# Altium schematic symbol library Arduino UNO.SchLib: 37 symbols
Pins are listed as number, name and electrical type; pins without a type are passive.

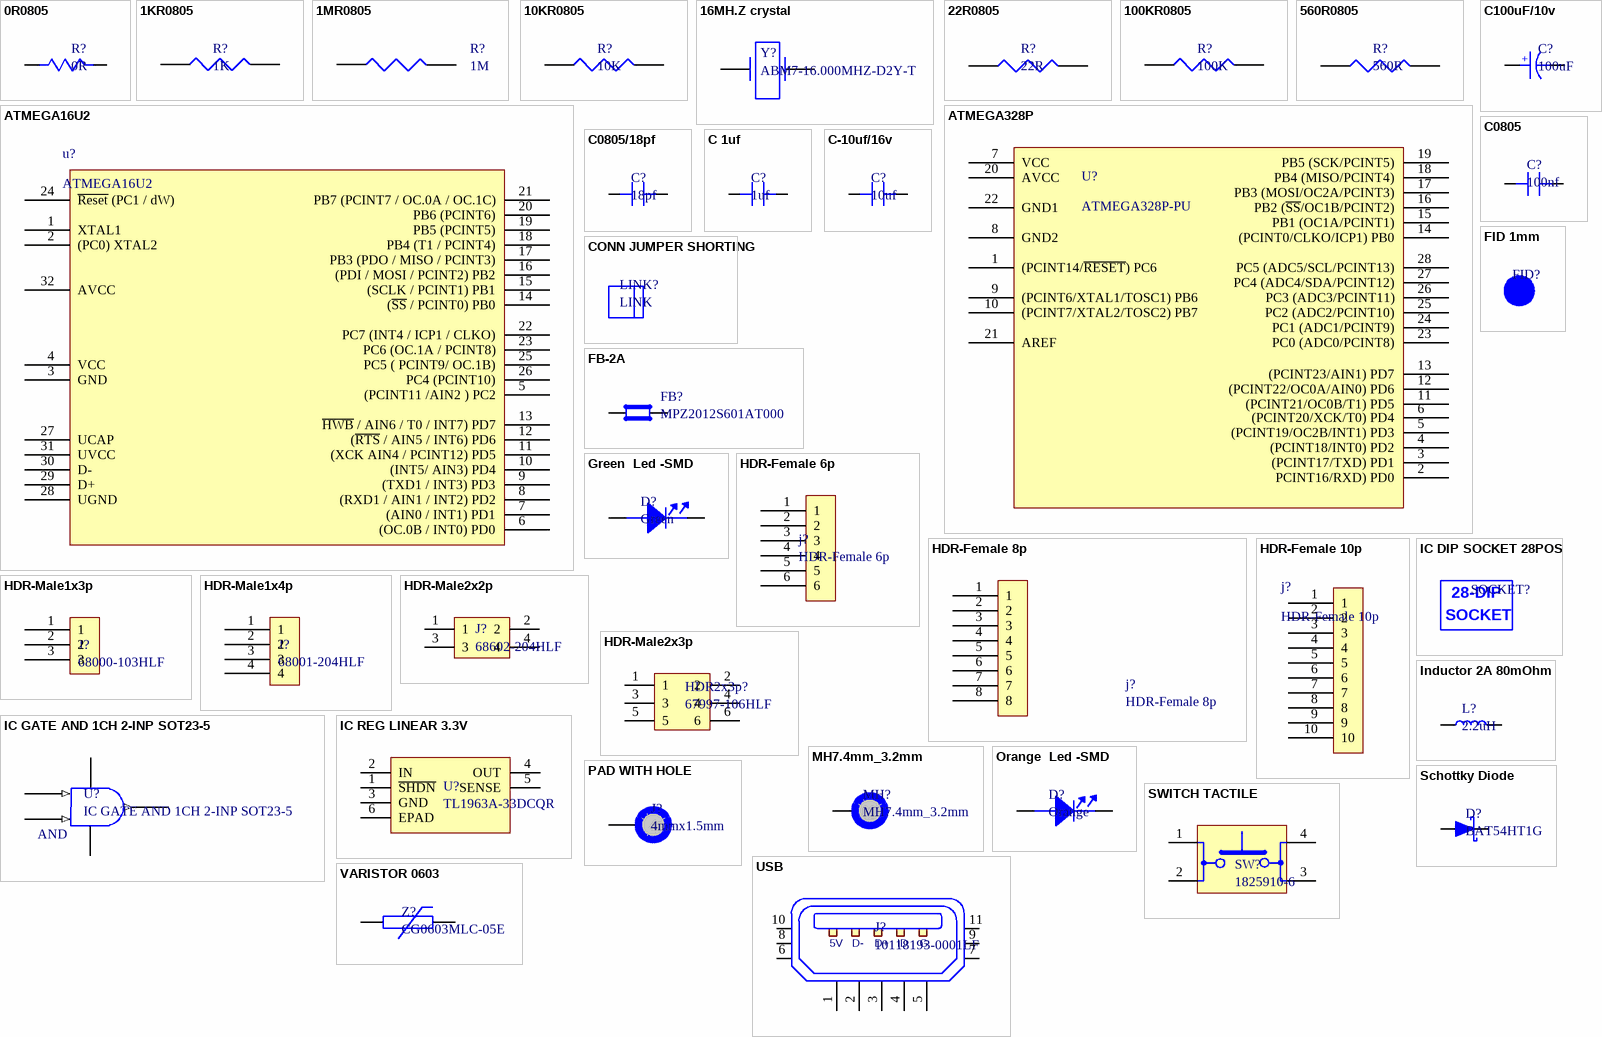
[diagram p0: symbols 0R0805 to VARISTOR 0603]

## 0R0805
designator R?, comment 0R
Supplier 1: Digi-Key; Supplier Part Number 1: 311-0.0ARCT-ND
footprint R0805
pins: 1, 2

## 1KR0805
designator R?, comment 1K
Supplier 1: Digi-Key; Supplier Part Number 1: 311-1.00KCRCT-ND
footprint R0805
pins: 1, 2

## 1MR0805
designator R?, comment 1M
Supplier 1: Digi-Key; Supplier Part Number 1: 311-1.00MCRCT-ND
footprint R0805
pins: 1, 2

## 10KR0805
designator R?, comment 10K
Supplier 1: Digi-Key; Supplier Part Number 1: 311-10.0KCRCT-ND
footprint R0805
pins: 1, 2

## 16MH.Z crystal
designator Y?, comment ABM7-16.000MHZ-D2Y-T
Supplier 1: Digi-Key; Supplier Part Number 1: 535-9840-1-ND
footprint ABM7-16.000MHZ
pins: 1, 2

## 22R0805
designator R?, comment 22R
Supplier 1: Digi-Key; Supplier Part Number 1: YAG3713DKR-ND
footprint R0805
pins: 1, 2

## 100KR0805
designator R?, comment 100K
Supplier 1: Digi-Key; Supplier Part Number 1: 311-100KCRCT-ND
footprint R0805
pins: 1, 2

## 560R0805
designator R?, comment 560R
Supplier 1: Digi-Key; Supplier Part Number 1: 311-560CRCT-ND
footprint R0805
pins: 1, 2

## ATMEGA16U2
designator u?
Supplier 1: Digi-Key; Supplier Part Number 1: ATMEGA16U2-AU-ND
footprint TQFP32
pins: 1 XTAL1, 2 (PC0) XTAL2, 3 GND, 4 VCC, 5 (PCINT11 /AIN2 ) PC2, 6 (OC.0B / INT0) PD0, 7 (AIN0 / INT1) PD1, 8 (RXD1 / AIN1 / INT2) PD2, 9 (TXD1 / INT3) PD3, 10 (INT5/ AIN3) PD4, 11 (XCK AIN4 / PCINT12) PD5, 12 (~{RTS} / AIN5 / INT6) PD6, 13 ~{HWB} / AIN6 / T0 / INT7) PD7, 14 (~{SS} / PCINT0) PB0, 15 (SCLK / PCINT1) PB1, 16 (PDI / MOSI / PCINT2) PB2, 17 PB3 (PDO / MISO / PCINT3), 18 PB4 (T1 / PCINT4), 19 PB5 (PCINT5), 20 PB6 (PCINT6), 21 PB7 (PCINT7 / OC.0A / OC.1C), 22 PC7 (INT4 / ICP1 / CLKO), 23 PC6 (OC.1A / PCINT8), 24 ~{Reset} (PC1 / dW), 25 PC5 ( PCINT9/ OC.1B), 26 PC4 (PCINT10), 27 UCAP, 28 UGND, 29 D+, 30 D-, 31 UVCC, 32 AVCC

## ATMEGA328P
designator U?, comment ATMEGA328P-PU
Supplier 1: Digi-Key; Supplier Part Number 1: ATMEGA328P-PU-ND
footprint ATMEGA328P-PU
pins: 1 (PCINT14/~{RESET}) PC6, 2 PCINT16/RXD) PD0, 3 (PCINT17/TXD) PD1, 4 (PCINT18/INT0) PD2, 5 (PCINT19/OC2B/INT1) PD3, 6 (PCINT20/XCK/T0) PD4, 7 VCC, 8 GND2, 9 (PCINT6/XTAL1/TOSC1) PB6, 10 (PCINT7/XTAL2/TOSC2) PB7, 11 (PCINT21/OC0B/T1) PD5, 12 (PCINT22/OC0A/AIN0) PD6, 13 (PCINT23/AIN1) PD7, 14 (PCINT0/CLKO/ICP1) PB0, 15 PB1 (OC1A/PCINT1), 16 PB2 (~{SS}/OC1B/PCINT2), 17 PB3 (MOSI/OC2A/PCINT3), 18 PB4 (MISO/PCINT4), 19 PB5 (SCK/PCINT5), 20 AVCC, 21 AREF, 22 GND1, 23 PC0 (ADC0/PCINT8), 24 PC1 (ADC1/PCINT9), 25 PC2 (ADC2/PCINT10), 26 PC3 (ADC3/PCINT11), 27 PC4 (ADC4/SDA/PCINT12), 28 PC5 (ADC5/SCL/PCINT13)

## C100uF/10v
designator C?, comment 100uF
Supplier 1: Digi-Key; Supplier Part Number 1: PCE3867CT-ND
footprint C_Alaminum_C size
pins: 1, 2
text: +

## C0805
designator C?, comment 100nf
Supplier 1: Digi-Key; Supplier Part Number 1: 399-1170-6-ND
footprint C0805
pins: 1, 2

## C0805/18pf
designator C?, comment 18pf
Supplier 1: Digi-Key; Supplier Part Number 1: 399-1112-1-ND
footprint C0805
pins: 1, 2

## C 1uf
designator C?, comment 1uf
Supplier 1: Digi-Key; Supplier Part Number 1: 445-1419-1-ND
footprint C0805
pins: 1, 2

## C-10uf/16v
designator C?, comment 10uf
Supplier 1: Digi-Key; Supplier Part Number 1: 445-4115-2-ND
footprint C 10uf/16v
pins: 1, 2

## CONN JUMPER SHORTING
designator LINK?, comment LINK  (mechanical)
Supplier 1: Digi-Key; Supplier Part Number 1: S9337-ND

## FB-2A
designator FB?, comment MPZ2012S601AT000
Supplier 1: Digi-Key; Supplier Part Number 1: 445-2206-6-ND
footprint FB-2A
pins: 1, 2

## FID 1mm
designator FID?, comment 1mm  (value not drawn)
footprint FID 40x120D

## Green  Led -SMD
designator D?, comment Green
Supplier 1: Digi-Key; Supplier Part Number 1: 475-2709-6-ND
footprint LED_0603
pins: 1, 2

## HDR-Female 6p
designator j?
Supplier 1: Digi-Key; Supplier Part Number 1: 952-1809-ND
footprint HDR-Female 6p
pins: 1, 2, 3, 4, 5, 6

## HDR-Female 8p
designator j?
Supplier 1: Digi-Key; Supplier Part Number 1: 952-1809-ND
footprint HDR-Female 8p
pins: 1, 2, 3, 4, 5, 6, 7, 8

## HDR-Female 10p
designator j?
Supplier 1: Digi-Key; Supplier Part Number 1: 952-1847-ND
footprint HDR-Female 10p (s)
pins: 1, 2, 3, 4, 5, 6, 7, 8, 9, 10

## HDR-Male1x3p
designator J?, comment 68000-103HLF
Supplier 1: Digi-Key; Supplier Part Number 1: 609-3461-ND
footprint HDR-male 3p
pins: 1, 2, 3

## HDR-Male1x4p
designator J?, comment 68001-204HLF
Supplier 1: Digi-Key; Supplier Part Number 1: 609-3402-ND
footprint HDR-male 4p
pins: 1, 2, 3, 4

## HDR-Male2x2p
designator J?, comment 68602-204HLF
Supplier 1: Digi-Key; Supplier Part Number 1: 609-3369-ND
footprint 2x2 Male Header
pins: 1, 2, 3, 4

## HDR-Male2x3p
designator HDR2x3p?, comment 67997-106HLF
Supplier 1: Digi-Key; Supplier Part Number 1: 609-3393-ND
footprint 2x3 Male Header
pins: 1, 2, 3, 4, 5, 6

## IC DIP SOCKET 28POS
designator SOCKET?  (value not drawn)
Supplier 1: Digi-Key; Supplier Part Number 1: 3M5480-ND
footprint IC DIP SOCKET 28POS
text: 28-DIP; SOCKET

## IC GATE AND 1CH 2-INP SOT23-5
designator U?
Supplier 1: Digi-Key; Supplier Part Number 1: 296-29202-1-ND
footprint DBV_SOT_23_5
pins: 1 (in), 2 (in), 3, 4 (out), 5
text: AND

## IC REG LINEAR 3.3V
designator U?, comment TL1963A-33DCQR
Supplier 1: Digi-Key; Supplier Part Number 1: 296-24534-1-ND
footprint DCQ 3.3 Reg
pins: 1 ~{SHDN}, 2 IN, 3 GND, 4 OUT, 5 SENSE, 6 EPAD

## Inductor 2A 80mOhm
designator L?, comment 2.2uH
Supplier 1: Digi-Key; Supplier Part Number 1: 399-9598-1-ND
footprint C1210 IND
pins: 1, 2

## MH7.4mm_3.2mm
designator MH?
pins: 1

## Orange  Led -SMD
designator D?, comment Orange
Supplier 1: Digi-Key; Supplier Part Number 1: 475-2740-1-ND
footprint LED_0603
pins: 1, 2

## PAD WITH HOLE
designator J?, comment 4mmx1.5mm  (no BOM)
footprint Pad With Hole 4mmx1.5mm
pins: 1

## Schottky Diode
designator D?, comment BAT54HT1G
Supplier 1: Digi-Key; Supplier Part Number 1: BAT54HT1GOSCT-ND
footprint SOD323
pins: 1 cathode, 2 anode

## SWITCH TACTILE
designator SW?, comment 1825910-6
Supplier 1: Digi-Key; Supplier Part Number 1: 450-1650-ND
footprint SWITCH TACTILE
pins: 1, 2, 3, 4

## USB
designator J?, comment 10118193-0001LF
Supplier 1: Digi-Key; Supplier Part Number 1: 609-4616-1-ND
footprint USB
pins: 1, 2, 3, 4, 5, 6, 7, 8, 9, 10, 11
text: 5V; D-; D+; ID; G

## VARISTOR 0603
designator Z?, comment CG0603MLC-05E
Supplier 1: Digi-Key; Supplier Part Number 1: CG0603MLC-05ECT-ND
footprint R0603
pins: 1, 2